# EAGLE library part HEADER_2X4 (library 1)
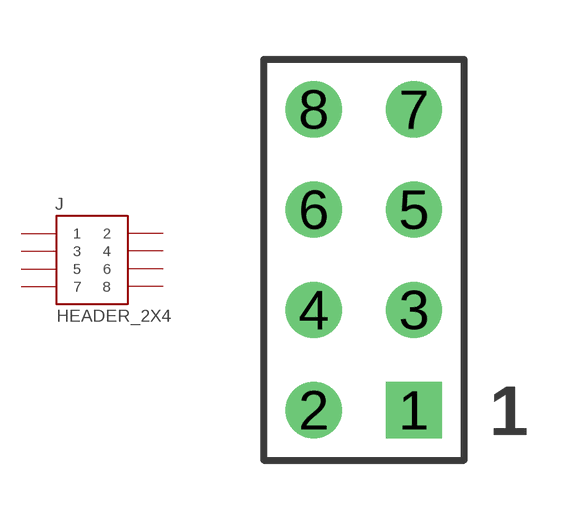
[diagram p33: symbol with the pads of 2X4_TH; footprint 2X4_TH]

Designator prefix J

## HEADER_2X4  [2X4_TH]
1  1
2  2
3  3
4  4
5  5
6  6
7  7
8  8

## Footprint 2X4_TH (pad centres in mm)
2x4 0.1" Header
drill 0.914 square: 1 0,0
drill 0.914: 2 -2.54,0; 3 0,2.54; 4 -2.54,2.54; 5 0,5.08; 6 -2.54,5.08; 7 0,7.62; 8 -2.54,7.62